# EAGLE library part MCP2551 (library shack)
CAN Tranceiver Microchip
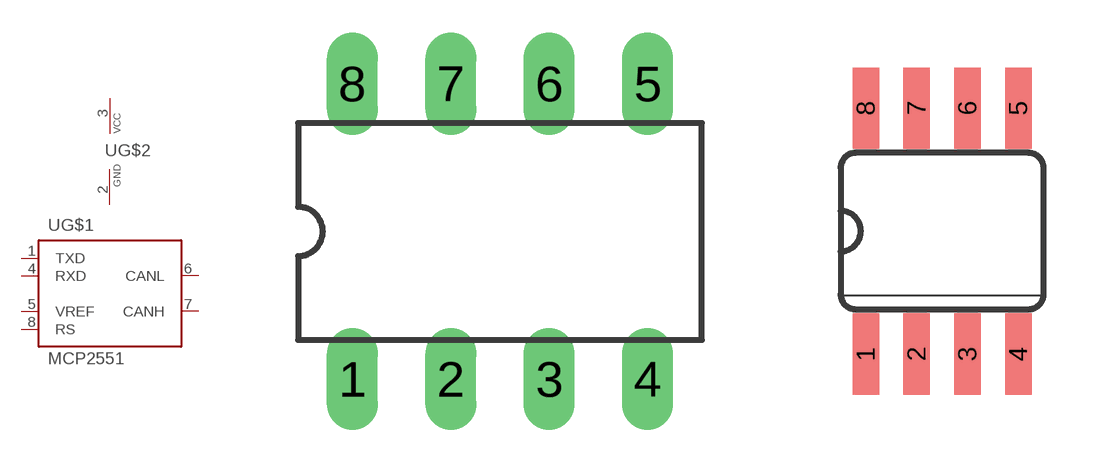
[diagram p1: symbol with the pads of DIL08; footprints DIL08, SO08]

Designator prefix -; gates G$1=82C250 G$2=VCC-GND

## MCP2551DIL8  [DIL08]
1  G$1:TXD
2  G$2:GND  pwr
3  G$2:VCC  pwr
4  G$1:RXD
5  G$1:VREF
6  G$1:CANL
7  G$1:CANH
8  G$1:RS

## MCP2551SO8  [SO08]
Pads as for DIL08

## Footprint DIL08 (pad centres in mm)
drill 0.813 long: 1 -3.81,-3.81; 2 -1.27,-3.81; 3 1.27,-3.81; 4 3.81,-3.81; 5 3.81,3.81; 6 1.27,3.81; 7 -1.27,3.81; 8 -3.81,3.81

## Footprint SO08 (pad centres in mm)
smd 0.66 x 2.032: 1 -1.905,-3.073; 2 -0.635,-3.073; 3 0.635,-3.073; 4 1.905,-3.073; 5 1.905,3.073; 6 0.635,3.073; 7 -0.635,3.073; 8 -1.905,3.073